# Altium schematic symbol library SCH - CONNECTORS - SAMTEC - TFM-104-02-L-D-A-K.SCHLIB: 1 symbol
Pins are listed as number, name and electrical type; pins without a type are passive.

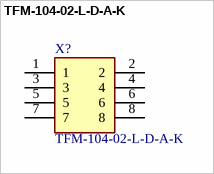
[diagram p0: symbol TFM-104-02-L-D-A-K]

## TFM-104-02-L-D-A-K
designator X?
Connector; Manufacturer: SAMTEC; Category: SAMTEC; Created: 2020-09-21_MGremer; Manufacturer Part Number: TFM-104-02-L-D-A-K; Supplier 1: Mouser; Supplier Part Number 1: 200-TFM10402LDAK
pins: 1, 2, 3, 4, 5, 6, 7, 8